# Altium integrated library OP777.IntLib: 2 symbols
Pins are listed as number, name and electrical type; pins without a type are passive.

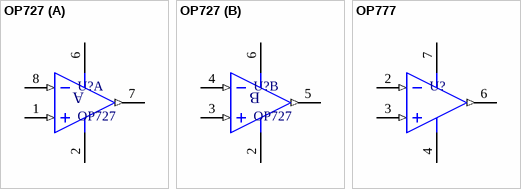
[diagram p0: symbols OP727 to OP777]

## OP727
designator U?, comment Comment_1: OP727  (hidden comment: Precision Micropower Single-Supply Operational Amplifiers)
OP727 Op-Amp; Manufacturer: Analog Devices; Autor: ROUX, Federico G.; E-Mail: rouxfederico@gmail.com; Part: OP727; URL: http://www.analog.com; Fecha: 05.07.2011
footprint R-8_N (SOIC, 8-Leads, Body 4.9x3.9mm, Pitch 1.27mm, IPC Medium Density)
footprint R-8_M (SOIC, 8-Leads, Body 4.9x3.9mm, Pitch 1.27mm, IPC Low Density)
footprint R-8_L (SOIC, 8-Leads, Body 4.9x3.9mm, Pitch 1.27mm, IPC High Density)
footprint R-8D_N (SOIC, 8-Leads, Body 4.9x3.9mm, Pitch 1.27mm, IPC Medium Density)
footprint R-8D_M (SOIC, 8-Leads, Body 4.9x3.9mm, Pitch 1.27mm, IPC Low Density)
footprint R-8D_L (SOIC, 8-Leads, Body 4.9x3.9mm, Pitch 1.27mm, IPC High Density)
footprint R-8C_N (SOIC, 8-Leads, Body 4.9x3.9mm, Pitch 1.27mm, IPC Medium Density)
footprint R-8C_M (SOIC, 8-Leads, Body 4.9x3.9mm, Pitch 1.27mm, IPC Low Density)
footprint R-8C_L (SOIC, 8-Leads, Body 4.9x3.9mm, Pitch 1.27mm, IPC High Density)
footprint RU-8 (Shrink Small Outline; 8 Leads; Body Width 4.4 mm; Pitch 0.65 mm); pin to pad 1>3 2>4 3>5 4>6 5>7 6>8 7>1 8>2
part A pins: 1 +IN A (in), 2 V- (power), 6 V+ (power), 7 OUT A (out), 8 -IN A (in)
part B pins: 2 V-, 3 +IN B (in), 4 -IN B (in), 5 OUT B (out), 6 V+
part A text: A
part B text: B

## OP777
designator U?, comment Precision Micropower Single-Supply Operational Amplifier  (value not drawn)
OP777 Analog Devices; Autor: ROUX, Federico G.; e-mail: rouxfederico@gmail.com; Name: OP777; Fabricante: Analog Devices; URL: http://www.analog.com/; Fecha: 05.07.2011
footprint RM-8 (Shrink Small Outline, MSOP; 8 Leads; Body Width 3 mm; Pitch 0.65 mm)
footprint R-8_N (SOIC, 8-Leads, Body 4.9x3.9mm, Pitch 1.27mm, IPC Medium Density)
footprint R-8_M (SOIC, 8-Leads, Body 4.9x3.9mm, Pitch 1.27mm, IPC Low Density)
footprint R-8_L (SOIC, 8-Leads, Body 4.9x3.9mm, Pitch 1.27mm, IPC High Density)
footprint R-8D_N (SOIC, 8-Leads, Body 4.9x3.9mm, Pitch 1.27mm, IPC Medium Density)
footprint R-8D_M (SOIC, 8-Leads, Body 4.9x3.9mm, Pitch 1.27mm, IPC Low Density)
footprint R-8D_L (SOIC, 8-Leads, Body 4.9x3.9mm, Pitch 1.27mm, IPC High Density)
footprint R-8C_N (SOIC, 8-Leads, Body 4.9x3.9mm, Pitch 1.27mm, IPC Medium Density)
footprint R-8C_M (SOIC, 8-Leads, Body 4.9x3.9mm, Pitch 1.27mm, IPC Low Density)
footprint R-8C_L (SOIC, 8-Leads, Body 4.9x3.9mm, Pitch 1.27mm, IPC High Density)
pins: 2 IN- (in), 3 IN+ (in), 4 V-, 6 OUT (out), 7 V+